# EAGLE library part DB-9- (library _mtvl.connectors)
SUB-D
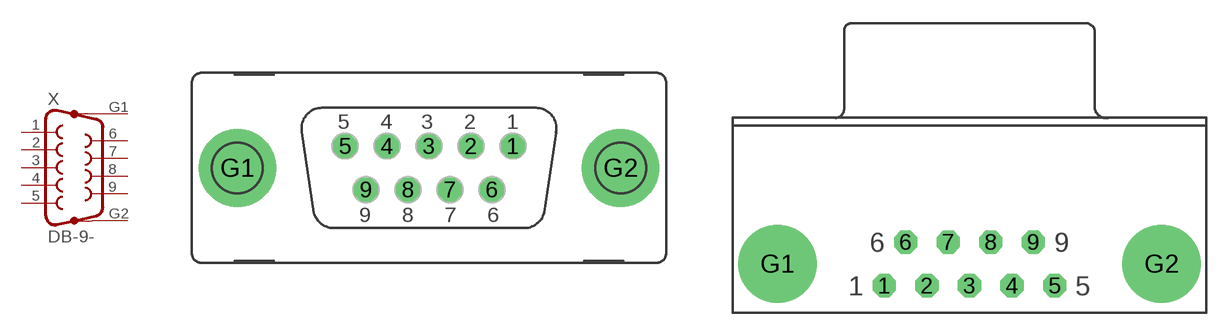
[diagram p41: symbol with the pads of F09VP; footprints F09VP, DRB-9FA]

Designator prefix X

## DB-9-VP (OC_FARNELL: unknown; OC_NEWARK: unknown)  [F09VP]
1  1  pas
2  2  pas
3  3  pas
4  4  pas
5  5  pas
6  6  pas
7  7  pas
8  8  pas
9  9  pas
G1  G1  pas
G2  G2  pas

## DB-9-FA  [DRB-9FA]
Pads as for F09VP

## Footprint F09VP (pad centres in mm)
SUB-D
drill 1.016 octagon: 1 5.486,1.422; 2 2.743,1.422; 3 0,1.422; 4 -2.743,1.422; 5 -5.486,1.422; 6 4.115,-1.422; 7 1.372,-1.422; 8 -1.372,-1.422; 9 -4.115,-1.422
drill 3.302 pad 5.08: G1 -12.522,0; G2 12.522,0

## Footprint DRB-9FA (pad centres in mm)
DRB-9FA D-SUB Connector (DS-1037 - 9- F) by Connfly PartNumber: DS1037-09FNAKT74-0CC
drill 1 octagon: 1 -5.54,-1.42; 2 -2.77,-1.42; 3 0,-1.42; 4 2.77,-1.42; 5 5.54,-1.42; 6 -4.155,1.42; 7 -1.385,1.42; 8 1.385,1.42; 9 4.155,1.42
drill 3.302 pad 5.08: G1 -12.495,0; G2 12.495,0